# Altium schematic symbol library Module_misc.SchLib: 28 symbols
Pins are listed as number, name and electrical type; pins without a type are passive.

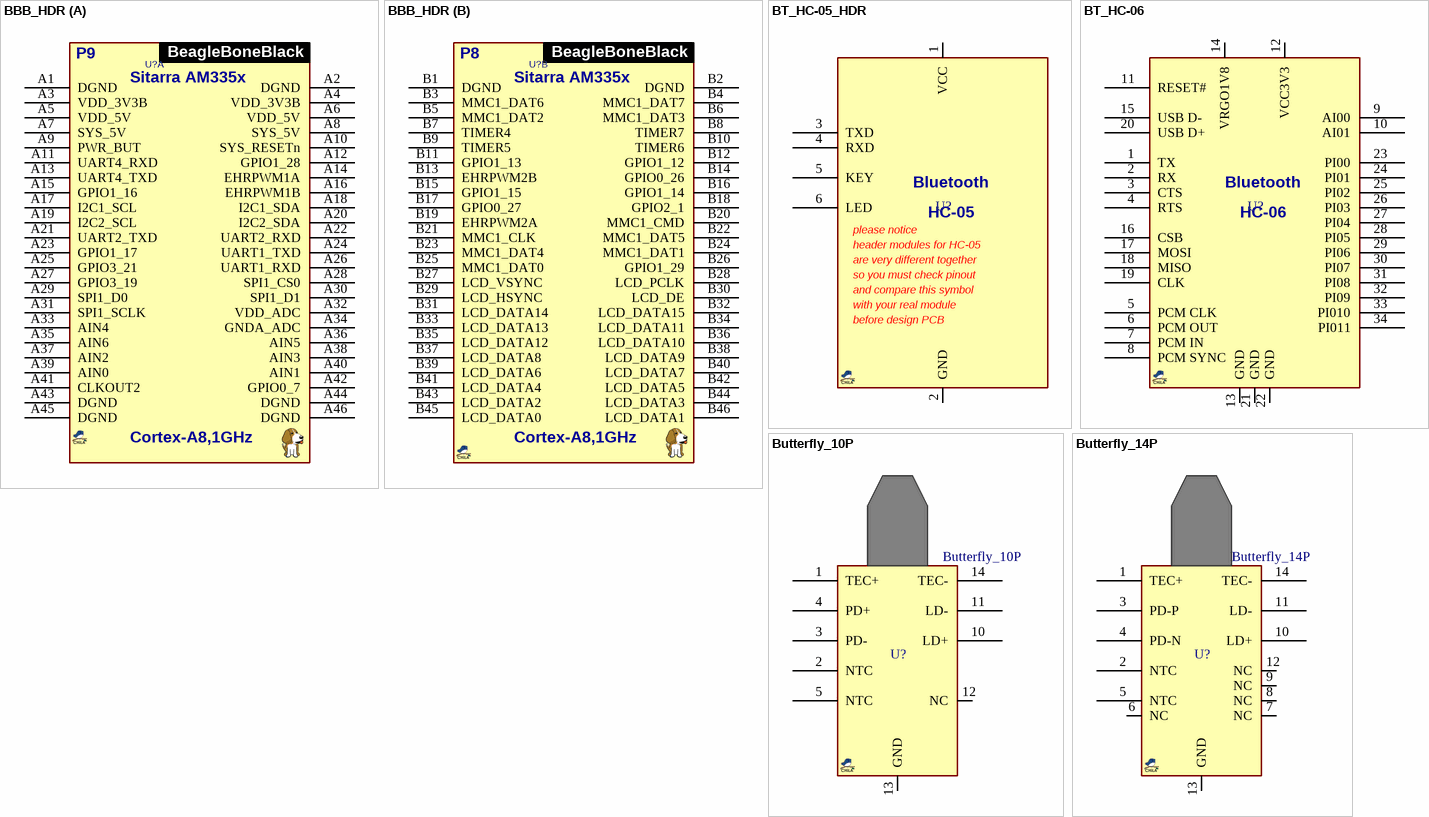
[diagram p0: symbols BBB_HDR to Butterfly_14P]

## BBB_HDR
designator U?, comment BeagleBoneBlack  (value not drawn)
BeagleBoneBlack Board (2x Header 2.54mm Male 2X23); MANF: Beagle Board; PARAM2: 5v; PARAM: Sitarra AM335x Cortex-A8,1GHz; MANF_P#: BeagleBoneBlack; PRICE: 50$; VALUE: BeagleBoneBlack
footprint BBB (BeagleBoneBlack Board)
part A pins: A1 DGND, A2 DGND, A3 VDD_3V3B, A4 VDD_3V3B, A5 VDD_5V, A6 VDD_5V, A7 SYS_5V, A8 SYS_5V, A9 PWR_BUT, A10 SYS_RESETn, A11 UART4_RXD, A12 GPIO1_28, A13 UART4_TXD, A14 EHRPWM1A, A15 GPIO1_16, A16 EHRPWM1B, A17 I2C1_SCL, A18 I2C1_SDA, A19 I2C2_SCL, A20 I2C2_SDA, A21 UART2_TXD, A22 UART2_RXD, A23 GPIO1_17, A24 UART1_TXD, A25 GPIO3_21, A26 UART1_RXD, A27 GPIO3_19, A28 SPI1_CS0, A29 SPI1_D0, A30 SPI1_D1, A31 SPI1_SCLK, A32 VDD_ADC, A33 AIN4, A34 GNDA_ADC, A35 AIN6, A36 AIN5, A37 AIN2, A38 AIN3, A39 AIN0, A40 AIN1, A41 CLKOUT2, A42 GPIO0_7, A43 DGND, A44 DGND, A45 DGND, A46 DGND
part B pins: B1 DGND, B2 DGND, B3 MMC1_DAT6, B4 MMC1_DAT7, B5 MMC1_DAT2, B6 MMC1_DAT3, B7 TIMER4, B8 TIMER7, B9 TIMER5, B10 TIMER6, B11 GPIO1_13, B12 GPIO1_12, B13 EHRPWM2B, B14 GPIO0_26, B15 GPIO1_15, B16 GPIO1_14, B17 GPIO0_27, B18 GPIO2_1, B19 EHRPWM2A, B20 MMC1_CMD, B21 MMC1_CLK, B22 MMC1_DAT5, B23 MMC1_DAT4, B24 MMC1_DAT1, B25 MMC1_DAT0, B26 GPIO1_29, B27 LCD_VSYNC, B28 LCD_PCLK, B29 LCD_HSYNC, B30 LCD_DE, B31 LCD_DATA14, B32 LCD_DATA15, B33 LCD_DATA13, B34 LCD_DATA11, B35 LCD_DATA12, B36 LCD_DATA10, B37 LCD_DATA8, B38 LCD_DATA9, B39 LCD_DATA6, B40 LCD_DATA7, B41 LCD_DATA4, B42 LCD_DATA5, B43 LCD_DATA2, B44 LCD_DATA3, B45 LCD_DATA0, B46 LCD_DATA1
part A text: P9; Sitarra AM335x; Cortex-A8,1GHz
part B text: P8; Sitarra AM335x; Cortex-A8,1GHz

## BT_HC-05_HDR
designator U?, comment HC-05  (value not drawn)
Bluetooth Module, 2Mbps, 8Mb flash, 3.1~4.2V; MANF: -; MANF_P#: HC-05; PARAM2: 3.1~4.2V; VALUE: HC-05
footprint BT_HC05_HDR (Bluetooth HC-05)
pins: 1 VCC, 2 GND, 3 TXD, 4 RXD, 5 KEY, 6 LED
text: Bluetooth; please notice; header modules for HC-05; are very different together; so you must check pinout; and compare this symbol; with your real module; before design PCB

## BT_HC-06
designator U?, comment HC-06  (value not drawn)
Bluetooth Module, 2Mbps, 8Mb flash, 3.1~4.2V; MANF: Guangzhou; MANF_P#: HC-06; PARAM2: 3.1~4.2V; VALUE: HC-06
footprint BT_HC06 (Bluetooth HC-06)
pins: 1 TX, 2 RX, 3 CTS, 4 RTS, 5 PCM CLK, 6 PCM OUT, 7 PCM IN, 8 PCM SYNC, 9 AI00, 10 AI01, 11 RESET#, 12 VCC3V3, 13 GND, 14 VRGO1V8, 15 USB D-, 16 CSB, 17 MOSI, 18 MISO, 19 CLK, 20 USB D+, 21 GND, 22 GND, 23 PI00, 24 PI01, 25 PI02, 26 PI03, 27 PI04, 28 PI05, 29 PI06, 30 PI07, 31 PI08, 32 PI09, 33 PI010, 34 PI011
text: Bluetooth

## Butterfly_10P
designator U?
Laser module, high-power, 6  35...1550 nm, 10PIN; MANF: Modulight; VALUE: Butterfly_10P
footprint BUTTERFLY_14 (Bluetooth HC-06)
pins: 1 TEC+, 2 NTC, 3 PD-, 4 PD+, 5 NTC, 10 LD+, 11 LD-, 12 NC, 13 GND, 14 TEC-

## Butterfly_14P
designator U?
Laser module, high-power, 6  35...1550 nm, 14PIN; MANF: Modulight; VALUE: Butterfly_14P
footprint BUTTERFLY_14 (Bluetooth HC-06)
pins: 1 TEC+, 2 NTC, 3 PD-P, 4 PD-N, 5 NTC, 6 NC, 7 NC, 8 NC, 9 NC, 10 LD+, 11 LD-, 12 NC, 13 GND, 14 TEC-

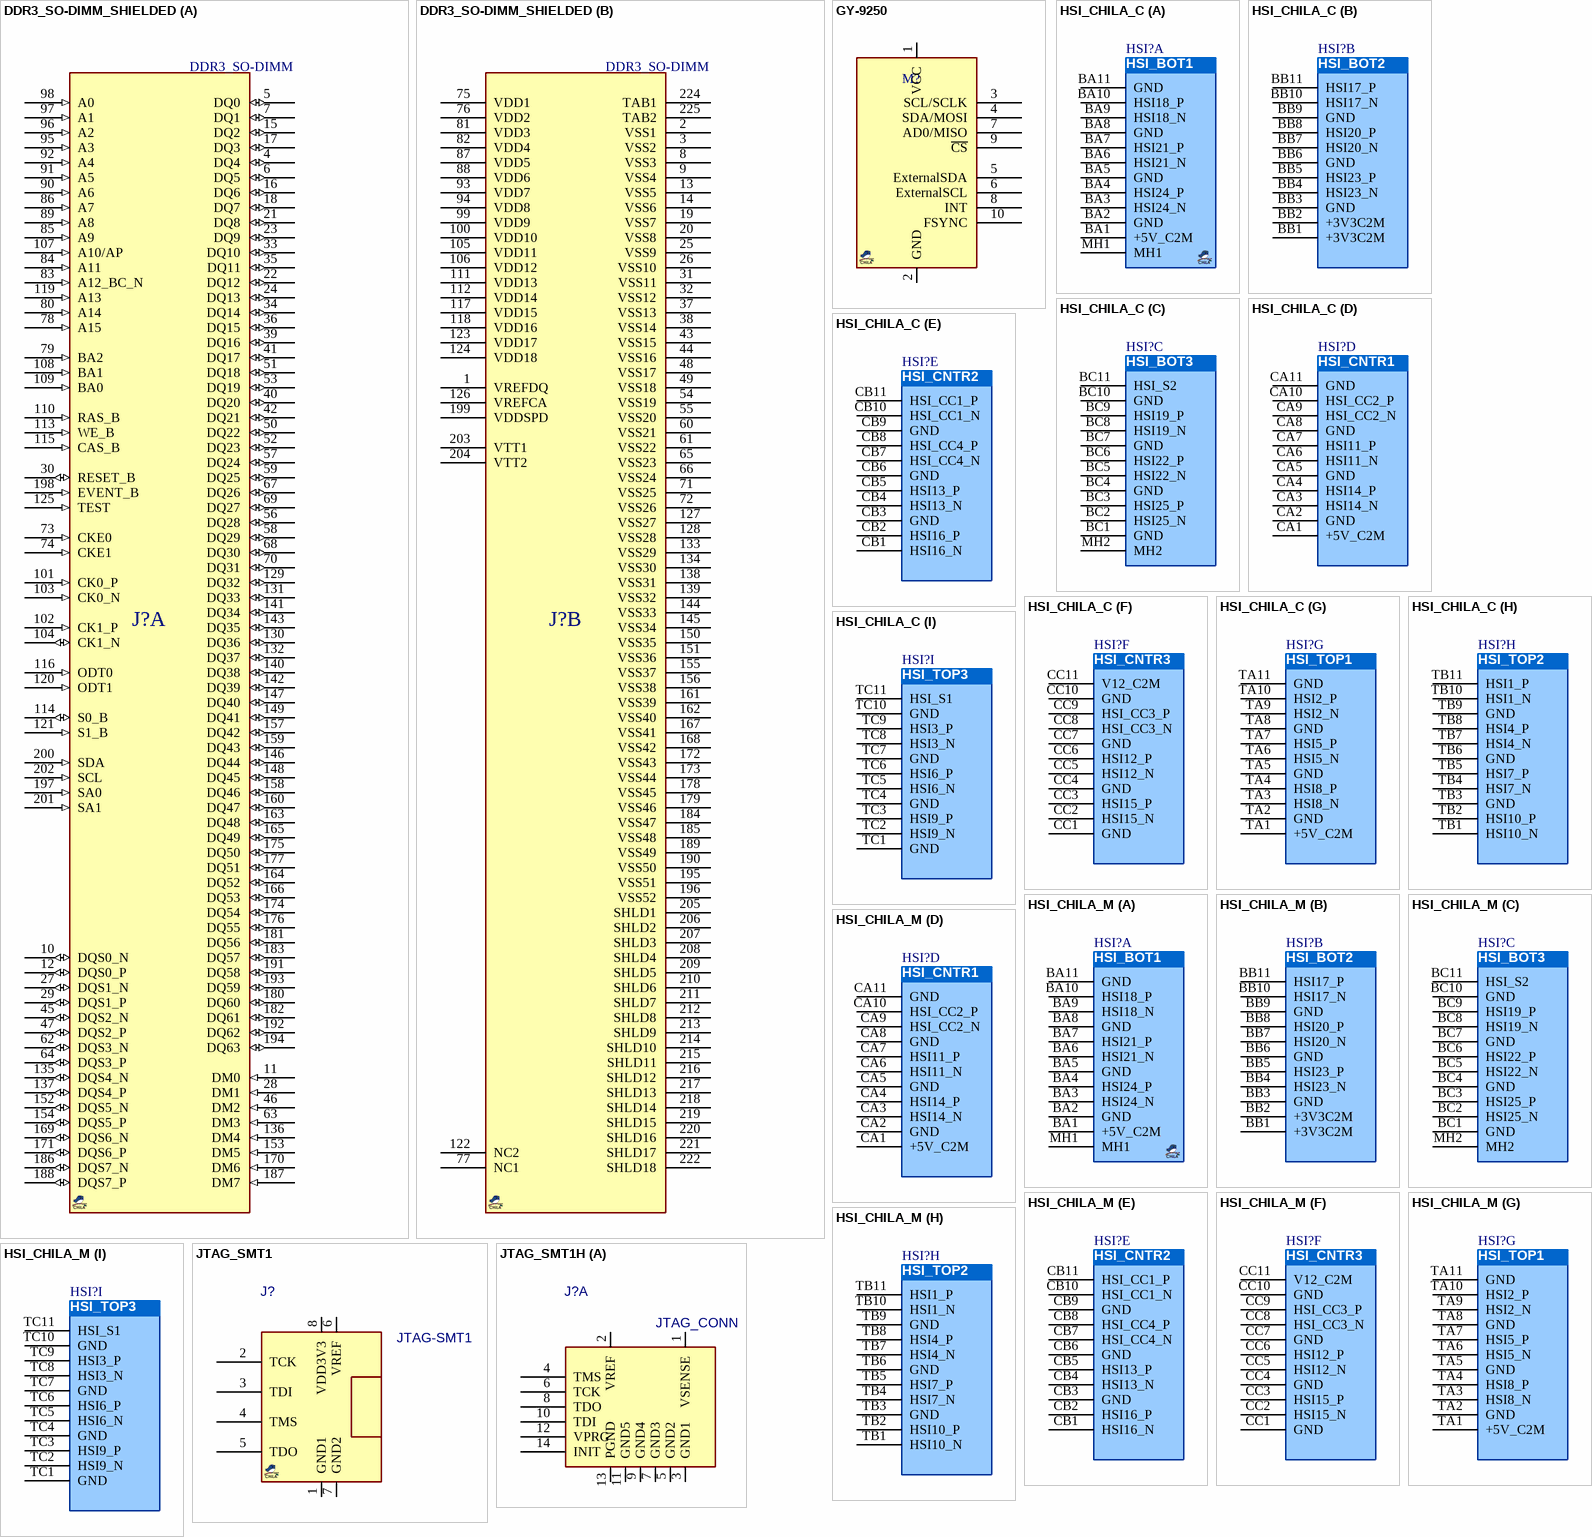
[diagram p1: symbols DDR3_SO-DIMM_SHIELDED to JTAG_SMT1H]

## DDR3_SO-DIMM_SHIELDED
designator J?, comment DDR3_SO-DIMM
Mdoule, SO-DIMM, DDR3; MANF: FOXCONN; MANF_P#: AS0A626-U2SN-7F; DESC: DDR3_SO-DIMM; VALUE: DDR3_SO-DIMM
footprint SODIMM_DDR3SH (DDR3_SO-DIMM_SHIELDED)
part A pins: 4 DQ4 (io), 5 DQ0 (io), 6 DQ5 (io), 7 DQ1 (io), 10 DQS0_N (io), 11 DM0 (in), 12 DQS0_P (io), 15 DQ2 (io), 16 DQ6 (io), 17 DQ3 (io), 18 DQ7 (io), 21 DQ8 (io), 22 DQ12 (io), 23 DQ9 (io), 24 DQ13 (io), 27 DQS1_N (io), 28 DM1 (in), 29 DQS1_P (io), 30 RESET_B (io), 33 DQ10 (io), 34 DQ14 (io), 35 DQ11 (io), 36 DQ15 (io), 39 DQ16 (io), 40 DQ20 (io), 41 DQ17 (io), 42 DQ21 (io), 45 DQS2_N (io), 46 DM2 (in), 47 DQS2_P (io), 50 DQ22 (io), 51 DQ18 (io), 52 DQ23 (io), 53 DQ19 (io), 56 DQ28 (io), 57 DQ24 (io), 58 DQ29 (io), 59 DQ25 (io), 62 DQS3_N (io), 63 DM3 (in), 64 DQS3_P (io), 67 DQ26 (io), 68 DQ30 (io), 69 DQ27 (io), 70 DQ31 (io), 73 CKE0 (in), 74 CKE1 (in), 78 A15 (in), 79 BA2 (in), 80 A14 (in), 83 A12_BC_N (in), 84 A11 (in), 85 A9 (in), 86 A7 (in), 89 A8 (in), 90 A6 (in), 91 A5 (in), 92 A4 (in), 95 A3 (in), 96 A2 (in), 97 A1 (in), 98 A0 (in), 101 CK0_P (in), 102 CK1_P (in), 103 CK0_N (in), 104 CK1_N (io), 107 A10/AP (in), 108 BA1 (in), 109 BA0 (in), 110 RAS_B (in), 113 WE_B (in), 114 S0_B (io), 115 CAS_B (in), 116 ODT0 (in), 119 A13 (in), 120 ODT1 (in), 121 S1_B (in), 125 TEST (in), 129 DQ32 (io), 130 DQ36 (io), 131 DQ33 (io), 132 DQ37 (io), 135 DQS4_N (io), 136 DM4 (in), 137 DQS4_P (io), 140 DQ38 (io), 141 DQ34 (io), 142 DQ39 (io), 143 DQ35 (io), 146 DQ44 (io), 147 DQ40 (io), 148 DQ45 (io), 149 DQ41 (io), 152 DQS5_N (io), 153 DM5 (in), 154 DQS5_P (io), 157 DQ42 (io), 158 DQ46 (io), 159 DQ43 (io), 160 DQ47 (io), 163 DQ48 (io), 164 DQ52 (io), 165 DQ49 (io), 166 DQ53 (io), 169 DQS6_N (io), 170 DM6 (in), 171 DQS6_P (io), 174 DQ54 (io), 175 DQ50 (io), 176 DQ55 (io), 177 DQ51 (io), 180 DQ60 (io), 181 DQ56 (io), 182 DQ61 (io), 183 DQ57 (io), 186 DQS7_N (io), 187 DM7 (in), 188 DQS7_P (io), 191 DQ58 (io), 192 DQ62 (io), 193 DQ59 (io), 194 DQ63 (io), 197 SA0 (in), 198 EVENT_B (in), 200 SDA (in), 201 SA1 (in), 202 SCL (in)
part B pins: 1 VREFDQ, 2 VSS1, 3 VSS2, 8 VSS3, 9 VSS4, 13 VSS5, 14 VSS6, 19 VSS7, 20 VSS8, 25 VSS9, 26 VSS10, 31 VSS11, 32 VSS12, 37 VSS13, 38 VSS14, 43 VSS15, 44 VSS16, 48 VSS17, 49 VSS18, 54 VSS19, 55 VSS20, 60 VSS21, 61 VSS22, 65 VSS23, 66 VSS24, 71 VSS25, 72 VSS26, 75 VDD1, 76 VDD2, 77 NC1, 81 VDD3, 82 VDD4, 87 VDD5, 88 VDD6, 93 VDD7, 94 VDD8, 99 VDD9, 100 VDD10, 105 VDD11, 106 VDD12, 111 VDD13, 112 VDD14, 117 VDD15, 118 VDD16, 122 NC2, 123 VDD17, 124 VDD18, 126 VREFCA, 127 VSS27, 128 VSS28, 133 VSS29, 134 VSS30, 138 VSS31, 139 VSS32, 144 VSS33, 145 VSS34, 150 VSS35, 151 VSS36, 155 VSS37, 156 VSS38, 161 VSS39, 162 VSS40, 167 VSS41, 168 VSS42, 172 VSS43, 173 VSS44, 178 VSS45, 179 VSS46, 184 VSS47, 185 VSS48, 189 VSS49, 190 VSS50, 195 VSS51, 196 VSS52, 199 VDDSPD, 203 VTT1, 204 VTT2, 205 SHLD1, 206 SHLD2, 207 SHLD3, 208 SHLD4, 209 SHLD5, 210 SHLD6, 211 SHLD7, 212 SHLD8, 213 SHLD9, 214 SHLD10, 215 SHLD11, 216 SHLD12, 217 SHLD13, 218 SHLD14, 219 SHLD15, 220 SHLD16, 221 SHLD17, 222 SHLD18, 224 TAB1, 225 TAB2

## GY-9250
designator M?  (value not drawn)
Module, MPU-9250 GYRO; VALUE: GY-9250
footprint GY9250H (GY-9250, MPU-9250 Module)
footprint GY9250 (GY-9250, MPU-9250 Module)
pins: 1 VCC, 2 GND, 3 SCL/SCLK, 4 SDA/MOSI, 5 ExternalSDA, 6 ExternalSCL, 7 AD0/MISO, 8 INT, 9 ~{CS}, 10 FSYNC

## HSI_CHILA_C
designator HSI?, comment HSI_CONN  (value not drawn)
HSI_HDR_CHILA Carrier; MANF: Chila; VALUE: HSI_CONN
signal-integrity model Connector
footprint HSI_C (CHILA_High.Speed.Interface_CARRIER, FEMALE)
part A pins: BA1 +5V_C2M, BA2 GND, BA3 HSI24_N, BA4 HSI24_P, BA5 GND, BA6 HSI21_N, BA7 HSI21_P, BA8 GND, BA9 HSI18_N, BA10 HSI18_P, BA11 GND, MH1
part B pins: BB1 +3V3C2M, BB2 +3V3C2M, BB3 GND, BB4 HSI23_N, BB5 HSI23_P, BB6 GND, BB7 HSI20_N, BB8 HSI20_P, BB9 GND, BB10 HSI17_N, BB11 HSI17_P
part C pins: BC1 GND, BC2 HSI25_N, BC3 HSI25_P, BC4 GND, BC5 HSI22_N, BC6 HSI22_P, BC7 GND, BC8 HSI19_N, BC9 HSI19_P, BC10 GND, BC11 HSI_S2, MH2
part D pins: CA1 +5V_C2M, CA2 GND, CA3 HSI14_N, CA4 HSI14_P, CA5 GND, CA6 HSI11_N, CA7 HSI11_P, CA8 GND, CA9 HSI_CC2_N, CA10 HSI_CC2_P, CA11 GND
part E pins: CB1 HSI16_N, CB2 HSI16_P, CB3 GND, CB4 HSI13_N, CB5 HSI13_P, CB6 GND, CB7 HSI_CC4_N, CB8 HSI_CC4_P, CB9 GND, CB10 HSI_CC1_N, CB11 HSI_CC1_P
part F pins: CC1 GND, CC2 HSI15_N, CC3 HSI15_P, CC4 GND, CC5 HSI12_N, CC6 HSI12_P, CC7 GND, CC8 HSI_CC3_N, CC9 HSI_CC3_P, CC10 GND, CC11 V12_C2M
part G pins: TA1 +5V_C2M, TA2 GND, TA3 HSI8_N, TA4 HSI8_P, TA5 GND, TA6 HSI5_N, TA7 HSI5_P, TA8 GND, TA9 HSI2_N, TA10 HSI2_P, TA11 GND
part H pins: TB1 HSI10_N, TB2 HSI10_P, TB3 GND, TB4 HSI7_N, TB5 HSI7_P, TB6 GND, TB7 HSI4_N, TB8 HSI4_P, TB9 GND, TB10 HSI1_N, TB11 HSI1_P
part I pins: TC1 GND, TC2 HSI9_N, TC3 HSI9_P, TC4 GND, TC5 HSI6_N, TC6 HSI6_P, TC7 GND, TC8 HSI3_N, TC9 HSI3_P, TC10 GND, TC11 HSI_S1
part A text: HSI_BOT1
part B text: HSI_BOT2
part C text: HSI_BOT3
part D text: HSI_CNTR1
part E text: HSI_CNTR2
part F text: HSI_CNTR3
part G text: HSI_TOP1
part H text: HSI_TOP2
part I text: HSI_TOP3

## HSI_CHILA_M
designator HSI?, comment HSI_CONN  (value not drawn)
HSI_HDR_CHILA Module; MANF: Chila; VALUE: HSI_CONN
signal-integrity model Connector
footprint HSI_C (CHILA_High.Speed.Interface_CARRIER, FEMALE)
part A pins: BA1 +5V_C2M, BA2 GND, BA3 HSI24_N, BA4 HSI24_P, BA5 GND, BA6 HSI21_N, BA7 HSI21_P, BA8 GND, BA9 HSI18_N, BA10 HSI18_P, BA11 GND, MH1
part B pins: BB1 +3V3C2M, BB2 +3V3C2M, BB3 GND, BB4 HSI23_N, BB5 HSI23_P, BB6 GND, BB7 HSI20_N, BB8 HSI20_P, BB9 GND, BB10 HSI17_N, BB11 HSI17_P
part C pins: BC1 GND, BC2 HSI25_N, BC3 HSI25_P, BC4 GND, BC5 HSI22_N, BC6 HSI22_P, BC7 GND, BC8 HSI19_N, BC9 HSI19_P, BC10 GND, BC11 HSI_S2, MH2
part D pins: CA1 +5V_C2M, CA2 GND, CA3 HSI14_N, CA4 HSI14_P, CA5 GND, CA6 HSI11_N, CA7 HSI11_P, CA8 GND, CA9 HSI_CC2_N, CA10 HSI_CC2_P, CA11 GND
part E pins: CB1 HSI16_N, CB2 HSI16_P, CB3 GND, CB4 HSI13_N, CB5 HSI13_P, CB6 GND, CB7 HSI_CC4_N, CB8 HSI_CC4_P, CB9 GND, CB10 HSI_CC1_N, CB11 HSI_CC1_P
part F pins: CC1 GND, CC2 HSI15_N, CC3 HSI15_P, CC4 GND, CC5 HSI12_N, CC6 HSI12_P, CC7 GND, CC8 HSI_CC3_N, CC9 HSI_CC3_P, CC10 GND, CC11 V12_C2M
part G pins: TA1 +5V_C2M, TA2 GND, TA3 HSI8_N, TA4 HSI8_P, TA5 GND, TA6 HSI5_N, TA7 HSI5_P, TA8 GND, TA9 HSI2_N, TA10 HSI2_P, TA11 GND
part H pins: TB1 HSI10_N, TB2 HSI10_P, TB3 GND, TB4 HSI7_N, TB5 HSI7_P, TB6 GND, TB7 HSI4_N, TB8 HSI4_P, TB9 GND, TB10 HSI1_N, TB11 HSI1_P
part I pins: TC1 GND, TC2 HSI9_N, TC3 HSI9_P, TC4 GND, TC5 HSI6_N, TC6 HSI6_P, TC7 GND, TC8 HSI3_N, TC9 HSI3_P, TC10 GND, TC11 HSI_S1
part A text: HSI_BOT1
part B text: HSI_BOT2
part C text: HSI_BOT3
part D text: HSI_CNTR1
part E text: HSI_CNTR2
part F text: HSI_CNTR3
part G text: HSI_TOP1
part H text: HSI_TOP2
part I text: HSI_TOP3

## JTAG_SMT1
designator J?, comment JTAG-SMT1
CONN, JTAG, FPGA, DIGILENT SMT1H; DESC: DESCRIPTION; PARAM2: 3.3VCC, 1.8-5VIO; MANF_P#: SMT1; MANF: DIGILENT; ASSEMBLY: ASSEMBLY; VALUE: JTAG-SMT1
footprint DIG_JTG_SMT1 (DIGILENT JTAG MODULE USB STM1)
pins: 1 GND1 (power), 2 TCK, 3 TDI, 4 TMS, 5 TDO, 6 VREF (power), 7 GND2 (power), 8 VDD3V3 (power)

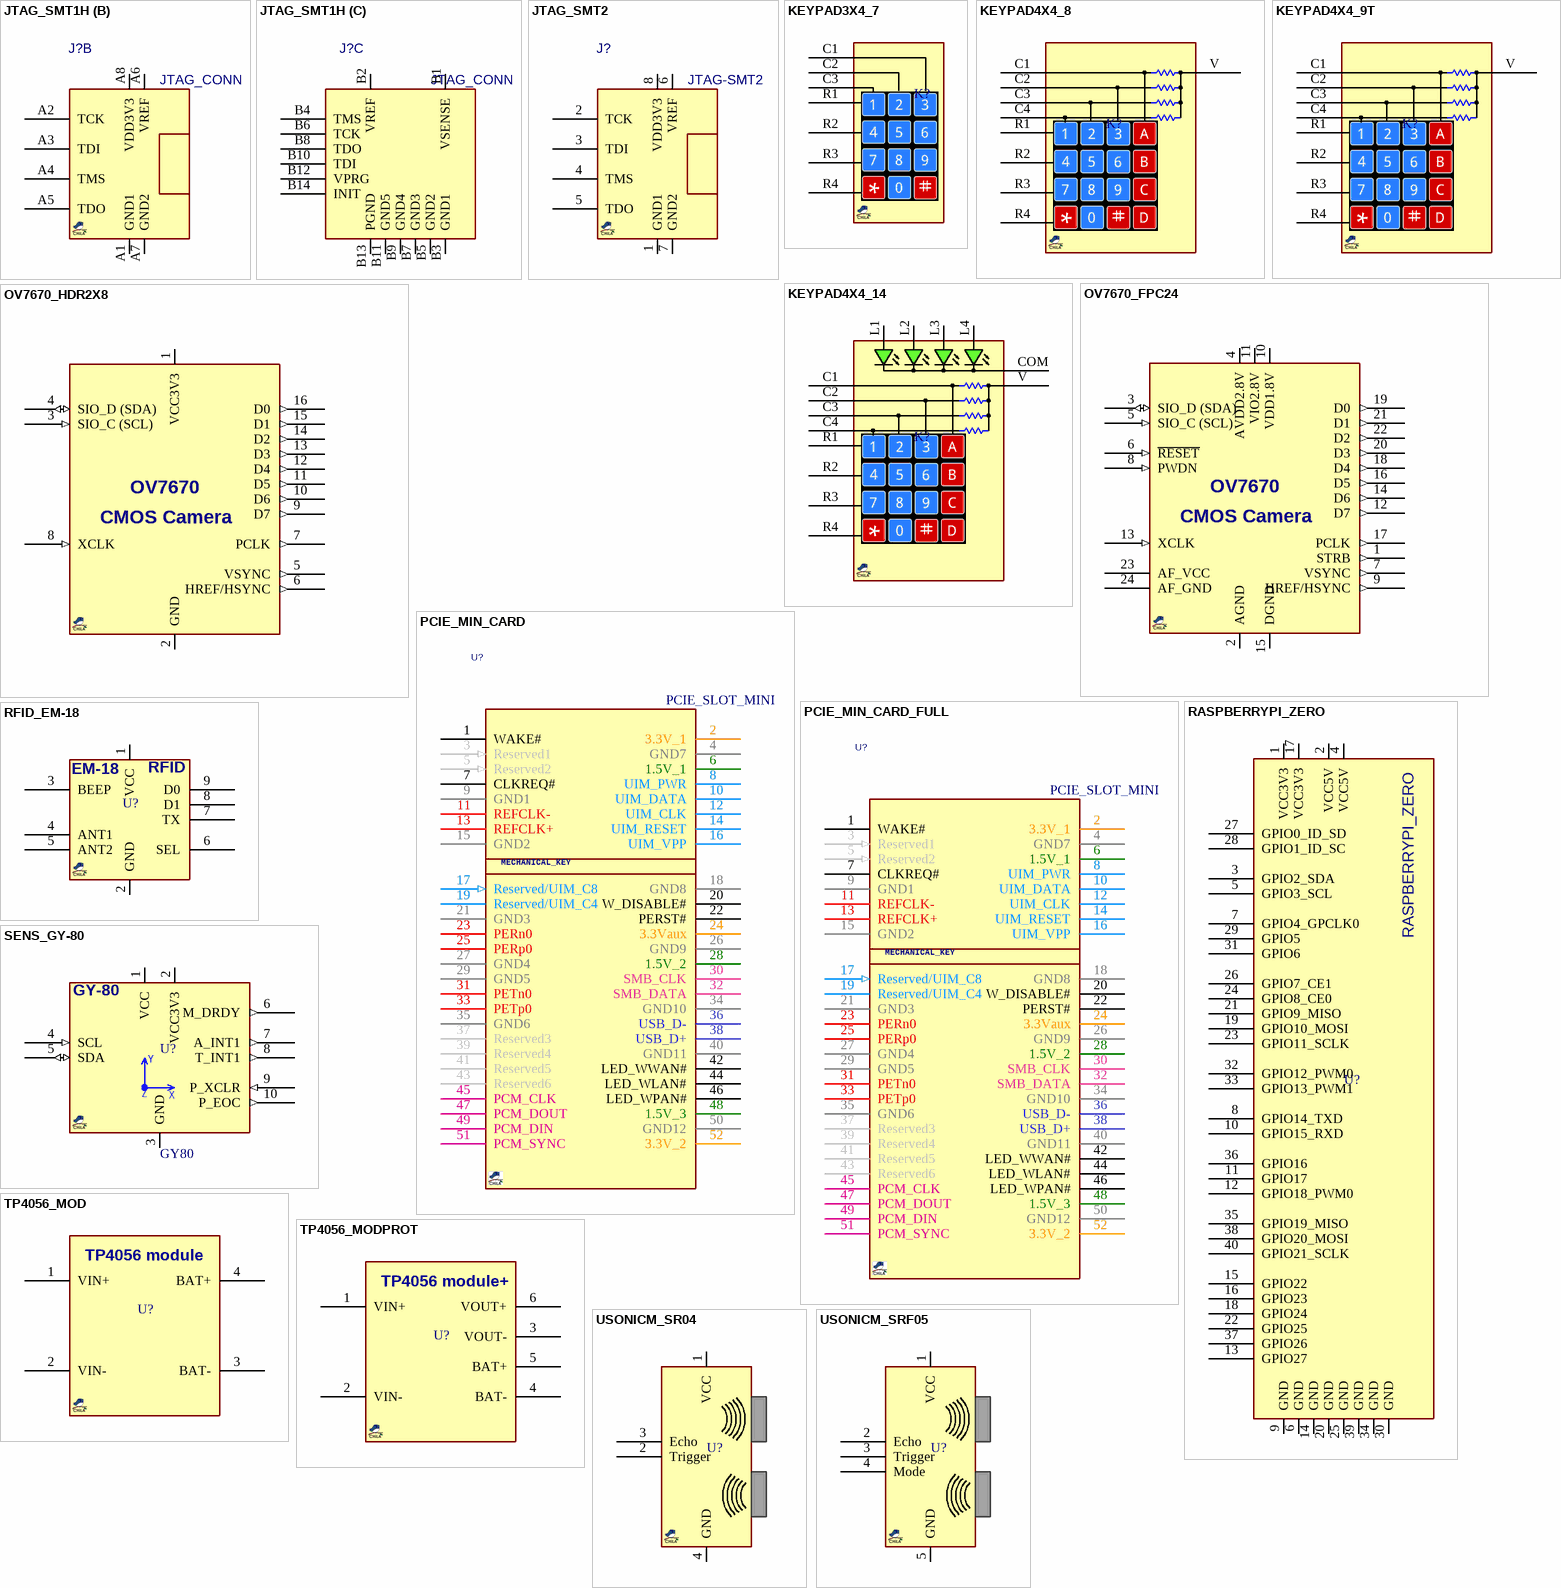
[diagram p2: symbols JTAG_SMT1H to USONICM_SRF05]

## JTAG_SMT1H
designator J?, comment JTAG_CONN
CONN, JTAG, FPGA, 14P + DIGILENT SMT1H; MANF: MOLEX; DESC: DESCRIPTION; ASSEMBLY: ASSEMBLY; VALUE: JTAG_CONN
footprint DIG_JTG_SMT1H (DIGILENT JTAG MODULE USB STM1)
part A pins: 1 VSENSE, 2 VREF, 3 GND1, 4 TMS, 5 GND2, 6 TCK, 7 GND3, 8 TDO, 9 GND4, 10 TDI, 11 GND5, 12 VPRG, 13 PGND, 14 INIT
part B pins: A1 GND1 (power), A2 TCK, A3 TDI, A4 TMS, A5 TDO, A6 VREF (power), A7 GND2 (power), A8 VDD3V3 (power)
part C pins: B1 VSENSE, B2 VREF, B3 GND1, B4 TMS, B5 GND2, B6 TCK, B7 GND3, B8 TDO, B9 GND4, B10 TDI, B11 GND5, B12 VPRG, B13 PGND, B14 INIT

## JTAG_SMT2
designator J?, comment JTAG-SMT2
CONN, JTAG, FPGA, DIGILENT SMT2; DESC: DESCRIPTION; PARAM2: 3.3VCC, 1.8-5VIO; MANF: DIGILENT; ASSEMBLY: ASSEMBLY; MANF_P#: SMT2; VALUE: JTAG-SMT2
footprint DIG_JTG_SMT2 (DIGILENT JTAG MODULE USB STM2)
pins: 1 GND1 (power), 2 TCK, 3 TDI, 4 TMS, 5 TDO, 6 VREF (power), 7 GND2 (power), 8 VDD3V3 (power)

## KEYPAD3X4_7
designator K?, comment KEYPAD_3X4  (value not drawn)
Keypad Module; VALUE: KEYPAD_3X4
footprint KEYPAD3X4_7 (Matrix Keyboard 4x4)
pins: C1, C2, C3, R1, R2, R3, R4

## KEYPAD4X4_8
designator K?, comment KEYPAD_4X4  (value not drawn)
Keypad Module; VALUE: KEYPAD_4X4
footprint KEYPAD4X4_10 (Matrix Keyboard 4x4)
pins: C1, C2, C3, C4, R1, R2, R3, R4, V

## KEYPAD4X4_9T
designator K?, comment KEYPAD_4X4  (value not drawn)
Keypad Module; VALUE: KEYPAD_4X4
footprint KEYPAD4X4_9t (Matrix Keyboard 4x4)
pins: C1, C2, C3, C4, R1, R2, R3, R4, V

## KEYPAD4X4_14
designator K?, comment KEYPAD_4X4  (value not drawn)
Keypad Module + LED; VALUE: KEYPAD_4X4
footprint KEYPAD4X4_14 (Matrix Keyboard 4x4)
pins: C1, C2, C3, C4, COM, L1, L2, L3, L4, R1, R2, R3, R4, V

## OV7670_FPC24
designator P?
OV7670 Color CMOS VGA (640 x 480)  Concept Camera Module; Value: COLOR VGA Camera
footprint FPC50_24 (FPC, FH12 Series; 24 Position; 0.5mm, Bottom Contact, FH12F-24S-0.5SH)
footprint FPC50_24T (Connector; FH12 Series; 24 Position; 0.5mm, Top Contact, FH12A-24S-0.5SH(55))
footprint FPC50_24V (Connector; FH12 Series; 24 Position; 0.5mm, Vertical, FH12-24S-0.5SV)
pins: 1 STRB (out), 2 AGND (power), 3 SIO_D (SDA) (io), 4 AVDD2.8V (power), 5 SIO_C (SCL) (in), 6 ~{RESET} (in), 7 VSYNC (out), 8 PWDN (in), 9 HREF/HSYNC (out), 10 VDD1.8V (power), 11 VIO2.8V (power), 12 D7 (out), 13 XCLK (in), 14 D6 (out), 15 DGND (power), 16 D5 (out), 17 PCLK (out), 18 D4 (out), 19 D0 (out), 20 D3 (out), 21 D1 (out), 22 D2 (out), 23 AF_VCC, 24 AF_GND
1 alternate drawing of the same symbol
text: OV7670; CMOS Camera

## OV7670_HDR2X8
designator U?  (value not drawn)
Camera Module, Color CMOS VGA (640 x 480)  Concept; MANF_P#: OV7670_HDR2X8; Value: OV7670_HDR2X8
footprint HDR_F_2X8 (Connector; Header; 8x2 Position)
pins: 1 VCC3V3 (power), 2 GND (power), 3 SIO_C (SCL) (in), 4 SIO_D (SDA) (io), 5 VSYNC (out), 6 HREF/HSYNC (out), 7 PCLK (out), 8 XCLK (in), 9 D7 (out), 10 D6 (out), 11 D5 (out), 12 D4 (out), 13 D3 (out), 14 D2 (out), 15 D1 (out), 16 D0 (out)
1 alternate drawing of the same symbol
text: OV7670; CMOS Camera

## PCIE_MIN_CARD
designator U?, comment PCIE_SLOT_MINI
CONN, PCIE SLOT, MINI, 2X26, SMT 0.8mm SP 1136H; MANF: Molex, JAE Electronics; MANF_P#: 679100002, MM60-52B1-E1-R650; PARAM2: PCI Express Mini Card 1mm thickness; PARAM: 0.80mm pitch, Right Angle, 2X26; PRICE: 1=2.16, 10=1.962, 25=1.842, 100=1.6817, 250=1.52152 (USD); VALUE: PCIE_SLOT_MINI
footprint PCIE_MIN_CARD (PCIE_MINI_CARD molex 679100002)
pins: 1 WAKE#, 2 3.3V_1, 3 Reserved1 (in), 4 GND7, 5 Reserved2 (in), 6 1.5V_1, 7 CLKREQ#, 8 UIM_PWR, 9 GND1, 10 UIM_DATA, 11 REFCLK-, 12 UIM_CLK, 13 REFCLK+, 14 UIM_RESET, 15 GND2, 16 UIM_VPP, 17 Reserved/UIM_C8 (in), 18 GND8, 19 Reserved/UIM_C4, 20 W_DISABLE#, 21 GND3, 22 PERST#, 23 PERn0, 24 3.3Vaux, 25 PERp0, 26 GND9, 27 GND4, 28 1.5V_2, 29 GND5, 30 SMB_CLK, 31 PETn0, 32 SMB_DATA, 33 PETp0, 34 GND10, 35 GND6, 36 USB_D-, 37 Reserved3, 38 USB_D+, 39 Reserved4, 40 GND11, 41 Reserved5, 42 LED_WWAN#, 43 Reserved6, 44 LED_WLAN#, 45 PCM_CLK, 46 LED_WPAN#, 47 PCM_DOUT, 48 1.5V_3, 49 PCM_DIN, 50 GND12, 51 PCM_SYNC, 52 3.3V_2
text: MECHANICAL_KEY

## PCIE_MIN_CARD_FULL
designator U?, comment PCIE_SLOT_MINI
CONN, PCIE SLOT, MINI, 2X26, SMT 0.8mm SP 1136H; MANF: Molex, JAE Electronics; MANF_P#: 679100002, MM60-52B1-E1-R650; PARAM2: PCI Express Mini Card 1mm thickness; PARAM: 0.80mm pitch, Right Angle, 2X26; PRICE: 1=2.16, 10=1.962, 25=1.842, 100=1.6817, 250=1.52152 (USD); VALUE: PCIE_SLOT_MINI
footprint PCIE_MIN_CARD_FULL (PCIE_MINI_CARD molex 679100002)
pins: 1 WAKE#, 2 3.3V_1, 3 Reserved1 (in), 4 GND7, 5 Reserved2 (in), 6 1.5V_1, 7 CLKREQ#, 8 UIM_PWR, 9 GND1, 10 UIM_DATA, 11 REFCLK-, 12 UIM_CLK, 13 REFCLK+, 14 UIM_RESET, 15 GND2, 16 UIM_VPP, 17 Reserved/UIM_C8 (in), 18 GND8, 19 Reserved/UIM_C4, 20 W_DISABLE#, 21 GND3, 22 PERST#, 23 PERn0, 24 3.3Vaux, 25 PERp0, 26 GND9, 27 GND4, 28 1.5V_2, 29 GND5, 30 SMB_CLK, 31 PETn0, 32 SMB_DATA, 33 PETp0, 34 GND10, 35 GND6, 36 USB_D-, 37 Reserved3, 38 USB_D+, 39 Reserved4, 40 GND11, 41 Reserved5, 42 LED_WWAN#, 43 Reserved6, 44 LED_WLAN#, 45 PCM_CLK, 46 LED_WPAN#, 47 PCM_DOUT, 48 1.5V_3, 49 PCM_DIN, 50 GND12, 51 PCM_SYNC, 52 3.3V_2
text: MECHANICAL_KEY

## RASPBERRYPI_ZERO
designator U?  (value not drawn)
RASPBERRYPI ZERO; PARAM2: 5V; MANF_P#: RASPBERRYPI_ZERO; VALUE: RASPBERRYPI_ZERO
footprint RPI_Z (Raspberry Pi Zero 65X30mm)
pins: 1 VCC3V3, 2 VCC5V, 3 GPIO2_SDA, 4 VCC5V, 5 GPIO3_SCL, 6 GND, 7 GPIO4_GPCLK0, 8 GPIO14_TXD, 9 GND, 10 GPIO15_RXD, 11 GPIO17, 12 GPIO18_PWM0, 13 GPIO27, 14 GND, 15 GPIO22, 16 GPIO23, 17 VCC3V3, 18 GPIO24, 19 GPIO10_MOSI, 20 GND, 21 GPIO9_MISO, 22 GPIO25, 23 GPIO11_SCLK, 24 GPIO8_CE0, 25 GND, 26 GPIO7_CE1, 27 GPIO0_ID_SD, 28 GPIO1_ID_SC, 29 GPIO5, 30 GND, 31 GPIO6, 32 GPIO12_PWM0, 33 GPIO13_PWM1, 34 GND, 35 GPIO19_MISO, 36 GPIO16, 37 GPIO26, 38 GPIO20_MOSI, 39 GND, 40 GPIO21_SCLK

## RFID_EM-18
designator U?, comment EM-18  (value not drawn)
RFID MODULE; PARAM2: 4.6~5.5V; MANF_P#: EM-18; VALUE: EM-18
footprint RFID_EM18 (Footprint not found)
pins: 1 VCC, 2 GND, 3 BEEP, 4 ANT1, 5 ANT2, 6 SEL, 7 TX, 8 D1, 9 D0
text: RFID

## SENS_GY-80
designator U?, comment GY80
Sensors Pack Module, Gyro+Accel+Magnet+Baro+Thermometer; MANF_P#: GY-80; PARAM: L3G4200D+ADXL345+MC5883L+BMP085
footprint HDR_F_1X10 (HEADER FEMALE pitch: 2.54mm)
pins: 1 VCC (power) "5V0 Power Supply", 2 VCC3V3 (power) "3V3 Power Supply", 3 GND (power) "Ground", 4 SCL (in) "I2C Serial Clock", 5 SDA (io) "I2C Serial Data", 6 M_DRDY (out) "HMC5883L Data Ready  Output", 7 A_INT1 (out) "ADXL345B Interrupt1 Output", 8 T_INT1 (out) "L3G4200 Programmale Interrupt Output", 9 P_XCLR (in) "BMP085 Master Clear Input", 10 P_EOC (out) "BMP085 End of Conversion Output"
1 alternate drawing of the same symbol
text: Y; Z; X

## TP4056_MOD
designator U?, comment TP4056 module  (value not drawn)
TP4056 module, Charger; MANF: NanJing; PARAM2: 4.5~8VIN, 4.2Vout max; PARAM: max 3A; MANF_P#: TP4056 MODULE; PRICE: 3.2t@javan; VALUE: TP4056 module
footprint TP4056_MOD (TP4056 MODULE)
pins: 1 VIN+, 2 VIN-, 3 BAT-, 4 BAT+

## TP4056_MODPROT
designator U?, comment TP4056 module+  (value not drawn)
TP4056 module, Charger with Protect; MANF: NanJing; PARAM2: 4.5~8VIN, 4.2Vout max; PARAM: max 3A; MANF_P#: TP4056 MODULE+; PRICE: 3.7t@javan; VALUE: TP4056 module+
footprint TP4056_MODP (Footprint not found)
pins: 1 VIN+, 2 VIN-, 3 VOUT-, 4 BAT-, 5 BAT+, 6 VOUT+

## USONICM_SR04
designator U?, comment SRF05
SRF05 - Ultra-Sonic Ranger; MANF_P#: SR04, HCSR04; PARAM2: 5V; VALUE: SRF05
footprint SRF05 (Connector; Header; 5 Position)
pins: 1 VCC, 2 Trigger, 3 Echo, 4 GND

## USONICM_SRF05
designator U?, comment SRF05
SRF05 - Ultra-Sonic Ranger; MANF_P#: SRF05, HY-SRF05, SRF005; PARAM2: 5V; VALUE: SRF05
footprint SRF05 (Connector; Header; 5 Position)
pins: 1 VCC, 2 Echo, 3 Trigger, 4 Mode, 5 GND

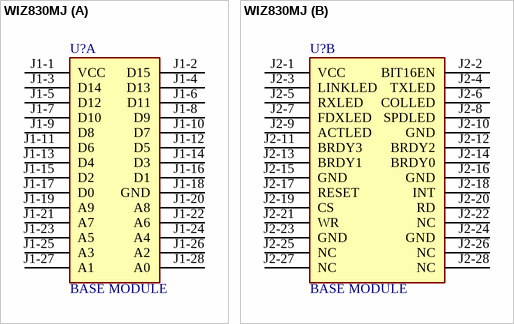
[diagram p3: symbol WIZ830MJ]

## WIZ830MJ
designator U?, comment BASE MODULE
footprint WIZ830
part A pins: J1-1 VCC, J1-2 D15, J1-3 D14, J1-4 D13, J1-5 D12, J1-6 D11, J1-7 D10, J1-8 D9, J1-9 D8, J1-10 D7, J1-11 D6, J1-12 D5, J1-13 D4, J1-14 D3, J1-15 D2, J1-16 D1, J1-17 D0, J1-18 GND, J1-19 A9, J1-20 A8, J1-21 A7, J1-22 A6, J1-23 A5, J1-24 A4, J1-25 A3, J1-26 A2, J1-27 A1, J1-28 A0
part B pins: J2-1 VCC, J2-2 BIT16EN, J2-3 LINKLED, J2-4 TXLED, J2-5 RXLED, J2-6 COLLED, J2-7 FDXLED, J2-8 SPDLED, J2-9 ACTLED, J2-10 GND, J2-11 BRDY3, J2-12 BRDY2, J2-13 BRDY1, J2-14 BRDY0, J2-15 GND, J2-16 GND, J2-17 RESET, J2-18 INT, J2-19 CS, J2-20 RD, J2-21 WR, J2-22 NC, J2-23 GND, J2-24 GND, J2-25 NC, J2-26 NC, J2-27 NC, J2-28 NC